# Altium footprint library Nanolog.PcbLib: 1 footprints
Each footprint in its own frame and in the unit in brackets; x right, y up, seen from the top. Pads: shape width x height; smd on the part's side, far side on the other; paste and mask are expansions set on the pad; w line width, h text height; cw(c..) or ccw(c..) is an arc to the next point about the centre after c.
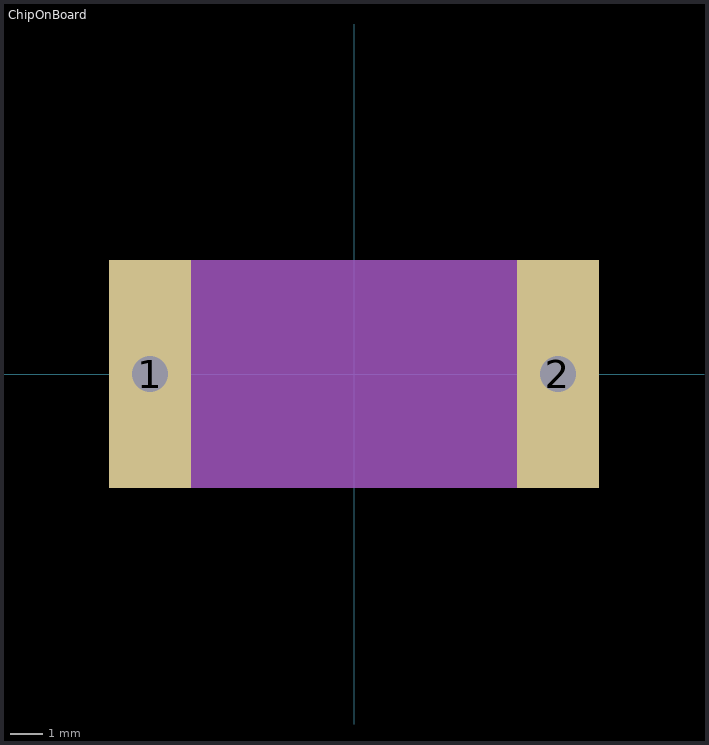
[diagram p0: the footprint, top view; thin cyan lines are the x and y axes]

## ChipOnBoard [mm]
pads (2):
  rect 2.5x7 hole 1.1: 1(-6.25,0) 2(6.25,0)
Mechanical 1:
  rectangle: -7.5,-3.5 7.5,3.5